# Altium footprint library ProtoStack_H750VBT.PcbLib: 87 footprints (part 4 of 6)
Each footprint in its own frame and in the unit in brackets; x right, y up, seen from the top. Pads: shape width x height; smd on the part's side, far side on the other; paste and mask are expansions set on the pad; w line width, h text height; cw(c..) or ccw(c..) is an arc to the next point about the centre after c.
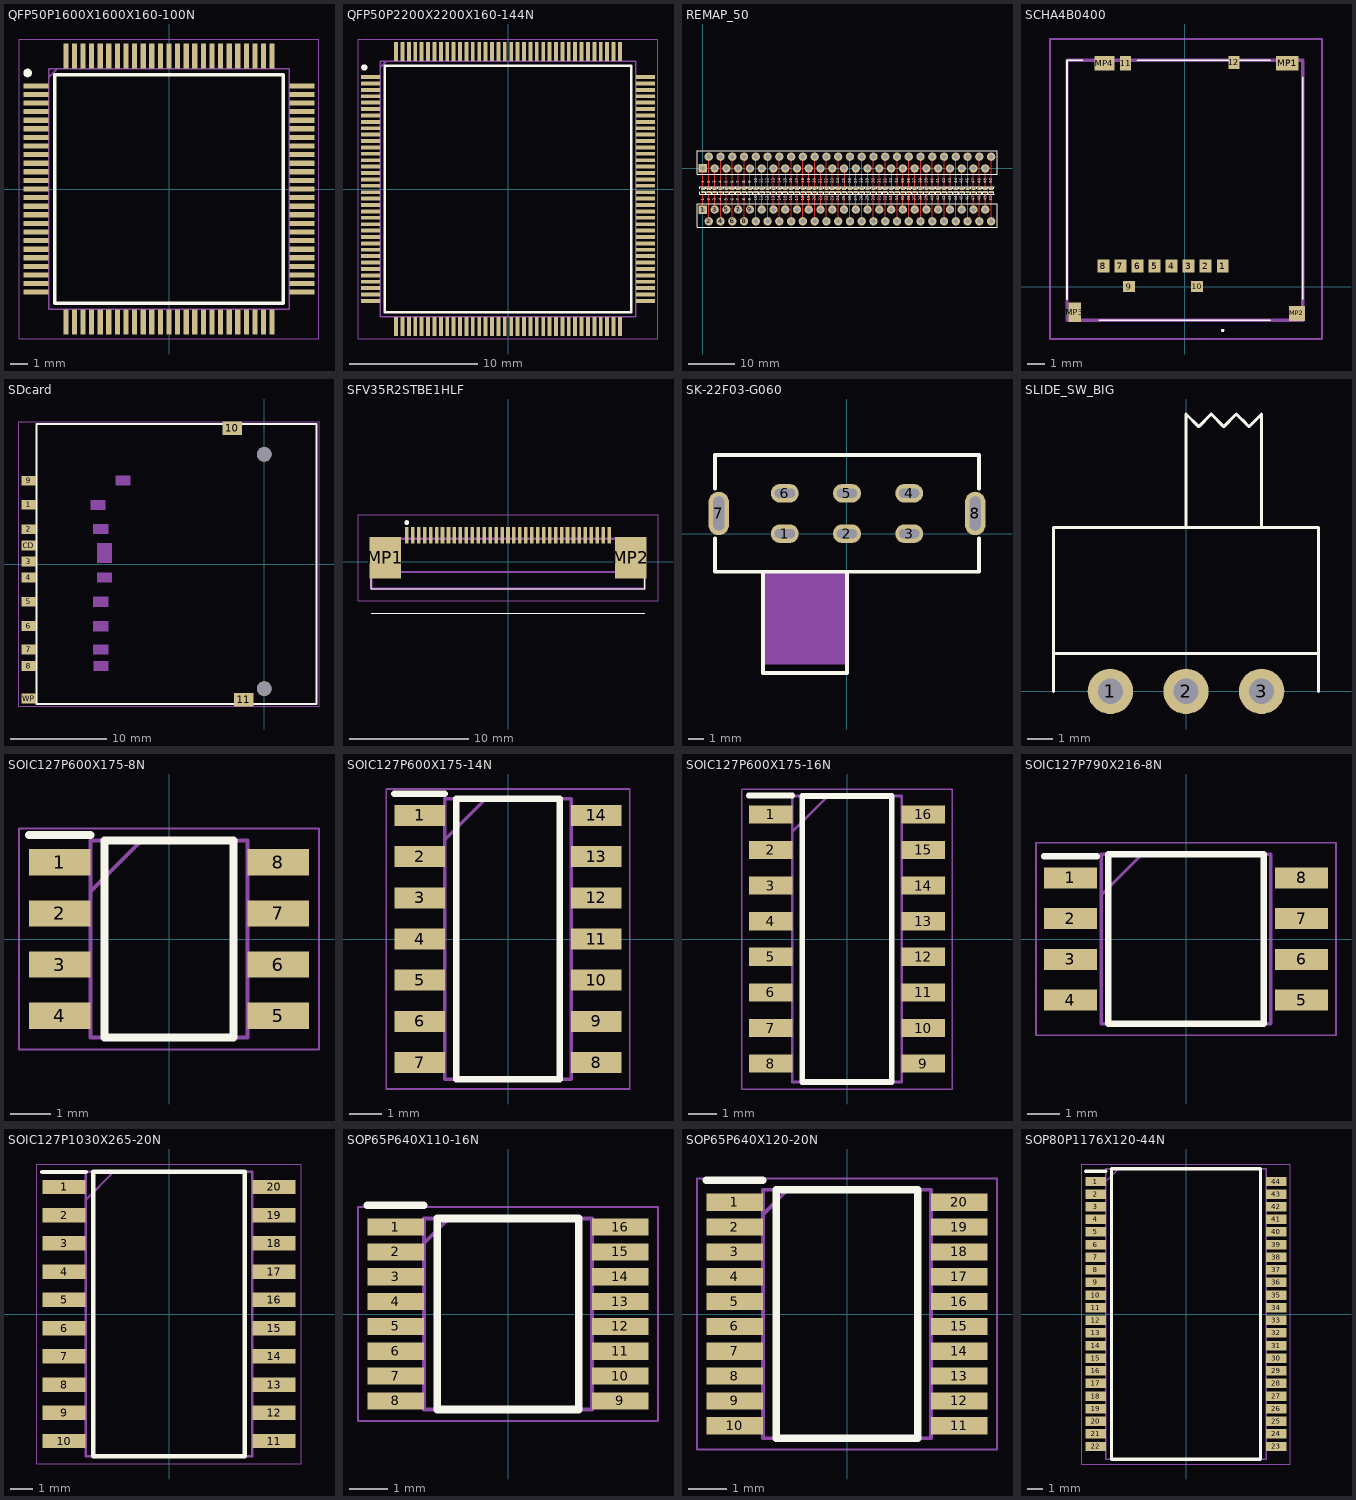
[diagram p3: the footprints below, top view; thin cyan lines are the x and y axes]

## QFP50P1600X1600X160-100N [mm]
pads (100):
  rect 1.475x0.3 smd: 1(-7.738,6) 2(-7.738,5.5) 3(-7.738,5) 4(-7.738,4.5) 5(-7.738,4) 6(-7.738,3.5) 7(-7.738,3) 8(-7.738,2.5) 9(-7.738,2) 10(-7.738,1.5) 11(-7.738,1) 12(-7.738,0.5) 13(-7.738,0) 14(-7.738,-0.5) 15(-7.738,-1) 16(-7.738,-1.5) 17(-7.738,-2) 18(-7.738,-2.5) 19(-7.738,-3) 20(-7.738,-3.5) 21(-7.738,-4) 22(-7.738,-4.5) 23(-7.738,-5) 24(-7.738,-5.5) 25(-7.738,-6) 51(7.738,-6) 52(7.738,-5.5) 53(7.738,-5) 54(7.738,-4.5) 55(7.738,-4) 56(7.738,-3.5) 57(7.738,-3) 58(7.738,-2.5) 59(7.738,-2) 60(7.738,-1.5) 61(7.738,-1) 62(7.738,-0.5) 63(7.738,0) 64(7.738,0.5) 65(7.738,1) 66(7.738,1.5) 67(7.738,2) 68(7.738,2.5) 69(7.738,3) 70(7.738,3.5) 71(7.738,4) 72(7.738,4.5) 73(7.738,5) 74(7.738,5.5) 75(7.738,6)
  rect 0.3x1.475 smd: 26(-6,-7.738) 27(-5.5,-7.738) 28(-5,-7.738) 29(-4.5,-7.738) 30(-4,-7.738) 31(-3.5,-7.738) 32(-3,-7.738) 33(-2.5,-7.738) 34(-2,-7.738) 35(-1.5,-7.738) 36(-1,-7.738) 37(-0.5,-7.738) 38(0,-7.738) 39(0.5,-7.738) 40(1,-7.738) 41(1.5,-7.738) 42(2,-7.738) 43(2.5,-7.738) 44(3,-7.738) 45(3.5,-7.738) 46(4,-7.738) 47(4.5,-7.738) 48(5,-7.738) 49(5.5,-7.738) 50(6,-7.738) 76(6,7.738) 77(5.5,7.738) 78(5,7.738) 79(4.5,7.738) 80(4,7.738) 81(3.5,7.738) 82(3,7.738) 83(2.5,7.738) 84(2,7.738) 85(1.5,7.738) 86(1,7.738) 87(0.5,7.738) 88(0,7.738) 89(-0.5,7.738) 90(-1,7.738) 91(-1.5,7.738) 92(-2,7.738) 93(-2.5,7.738) 94(-3,7.738) 95(-3.5,7.738) 96(-4,7.738) 97(-4.5,7.738) 98(-5,7.738) 99(-5.5,7.738) 100(-6,7.738)
Top Overlay:
  circle w0.25: c-8.225,6.75 r0.125
  lines w0.2: -6.65,-6.65 -6.65,6.65 6.65,6.65 6.65,-6.65 -6.65,-6.65
Mechanical 13:
  lines w0.1: -7,6.5 -6.5,7 ; -7,-7 -7,7 7,7 7,-7 -7,-7
Mechanical 15:
  lines w0.05: -8.725,-8.725 -8.725,8.725 8.725,8.725 8.725,-8.725 -8.725,-8.725
3D body "STM32H750VBT6.stp": height 1.6, standoff 0, extent -8,-8 8,8

## QFP50P2200X2200X160-144N [mm]
pads (144):
  rect 1.475x0.3 smd: 1(-10.738,8.75) 2(-10.738,8.25) 3(-10.738,7.75) 4(-10.738,7.25) 5(-10.738,6.75) 6(-10.738,6.25) 7(-10.738,5.75) 8(-10.738,5.25) 9(-10.738,4.75) 10(-10.738,4.25) 11(-10.738,3.75) 12(-10.738,3.25) 13(-10.738,2.75) 14(-10.738,2.25) 15(-10.738,1.75) 16(-10.738,1.25) 17(-10.738,0.75) 18(-10.738,0.25) 19(-10.738,-0.25) 20(-10.738,-0.75) 21(-10.738,-1.25) 22(-10.738,-1.75) 23(-10.738,-2.25) 24(-10.738,-2.75) 25(-10.738,-3.25) 26(-10.738,-3.75) 27(-10.738,-4.25) 28(-10.738,-4.75) 29(-10.738,-5.25) 30(-10.738,-5.75) 31(-10.738,-6.25) 32(-10.738,-6.75) 33(-10.738,-7.25) 34(-10.738,-7.75) 35(-10.738,-8.25) 36(-10.738,-8.75) 73(10.738,-8.75) 74(10.738,-8.25) 75(10.738,-7.75) 76(10.738,-7.25) 77(10.738,-6.75) 78(10.738,-6.25) 79(10.738,-5.75) 80(10.738,-5.25) 81(10.738,-4.75) 82(10.738,-4.25) 83(10.738,-3.75) 84(10.738,-3.25) 85(10.738,-2.75) 86(10.738,-2.25) 87(10.738,-1.75) 88(10.738,-1.25) 89(10.738,-0.75) 90(10.738,-0.25) 91(10.738,0.25) 92(10.738,0.75) 93(10.738,1.25) 94(10.738,1.75) 95(10.738,2.25) 96(10.738,2.75) 97(10.738,3.25) 98(10.738,3.75) 99(10.738,4.25) 100(10.738,4.75) 101(10.738,5.25) 102(10.738,5.75) 103(10.738,6.25) 104(10.738,6.75) 105(10.738,7.25) 106(10.738,7.75) 107(10.738,8.25) 108(10.738,8.75)
  rect 0.3x1.475 smd: 37(-8.75,-10.738) 38(-8.25,-10.738) 39(-7.75,-10.738) 40(-7.25,-10.738) 41(-6.75,-10.738) 42(-6.25,-10.738) 43(-5.75,-10.738) 44(-5.25,-10.738) 45(-4.75,-10.738) 46(-4.25,-10.738) 47(-3.75,-10.738) 48(-3.25,-10.738) 49(-2.75,-10.738) 50(-2.25,-10.738) 51(-1.75,-10.738) 52(-1.25,-10.738) 53(-0.75,-10.738) 54(-0.25,-10.738) 55(0.25,-10.738) 56(0.75,-10.738) 57(1.25,-10.738) 58(1.75,-10.738) 59(2.25,-10.738) 60(2.75,-10.738) 61(3.25,-10.738) 62(3.75,-10.738) 63(4.25,-10.738) 64(4.75,-10.738) 65(5.25,-10.738) 66(5.75,-10.738) 67(6.25,-10.738) 68(6.75,-10.738) 69(7.25,-10.738) 70(7.75,-10.738) 71(8.25,-10.738) 72(8.75,-10.738) 109(8.75,10.738) 110(8.25,10.738) 111(7.75,10.738) 112(7.25,10.738) 113(6.75,10.738) 114(6.25,10.738) 115(5.75,10.738) 116(5.25,10.738) 117(4.75,10.738) 118(4.25,10.738) 119(3.75,10.738) 120(3.25,10.738) 121(2.75,10.738) 122(2.25,10.738) 123(1.75,10.738) 124(1.25,10.738) 125(0.75,10.738) 126(0.25,10.738) 127(-0.25,10.738) 128(-0.75,10.738) 129(-1.25,10.738) 130(-1.75,10.738) 131(-2.25,10.738) 132(-2.75,10.738) 133(-3.25,10.738) 134(-3.75,10.738) 135(-4.25,10.738) 136(-4.75,10.738) 137(-5.25,10.738) 138(-5.75,10.738) 139(-6.25,10.738) 140(-6.75,10.738) 141(-7.25,10.738) 142(-7.75,10.738) 143(-8.25,10.738) 144(-8.75,10.738)
Top Overlay:
  circle w0.25: c-11.225,9.5 r0.125
  lines w0.2: -9.65,-9.65 -9.65,9.65 9.65,9.65 9.65,-9.65 -9.65,-9.65
Mechanical 13:
  lines w0.1: -10,9.5 -9.5,10 ; -10,-10 -10,10 10,10 10,-10 -10,-10
Mechanical 15:
  lines w0.05: -11.725,-11.725 -11.725,11.725 11.725,11.725 11.725,-11.725 -11.725,-11.725
3D body "STM32H743ZIT6U.stp": height 1.6, standoff 0, extent -11,-11 11,11

## REMAP_50 [mm]
pads (200):
  rect 1.8x1.8 hole 1: 1(0,-8.89) R1(0,0)
  rect 0.9x0.5 smd: 1_(0,-5.08) 1_(1.27,-5.08) 1_(2.54,-5.08) 1_(3.81,-5.08) 1_(5.08,-5.08) 1_(6.35,-5.08) 1_(7.62,-5.08) 1_(8.89,-5.08) 1_(10.16,-5.08) 1_(11.43,-5.08) 1_(12.7,-5.08) 1_(13.97,-5.08) 1_(15.24,-5.08) 1_(16.51,-5.08) 1_(17.78,-5.08) 1_(19.05,-5.08) 1_(20.32,-5.08) 1_(21.59,-5.08) 1_(22.86,-5.08) 1_(24.13,-5.08) 1_(25.4,-5.08) 1_(26.67,-5.08) 1_(27.94,-5.08) 1_(29.21,-5.08) 1_(30.48,-5.08) 1_(31.75,-5.08) 1_(33.02,-5.08) 1_(34.29,-5.08) 1_(35.56,-5.08) 1_(36.83,-5.08) 1_(38.1,-5.08) 1_(39.37,-5.08) 1_(40.64,-5.08) 1_(41.91,-5.08) 1_(43.18,-5.08) 1_(44.45,-5.08) 1_(45.72,-5.08) 1_(46.99,-5.08) 1_(48.26,-5.08) 1_(49.53,-5.08) 1_(50.8,-5.08) 1_(52.07,-5.08) 1_(53.34,-5.08) 1_(54.61,-5.08) 1_(55.88,-5.08) 1_(57.15,-5.08) 1_(58.42,-5.08) 1_(59.69,-5.08) 1_(60.96,-5.08) 1_(62.23,-5.08) 2_(0,-4.38) 2_(1.27,-4.38) 2_(2.54,-4.38) 2_(3.81,-4.38) 2_(5.08,-4.38) 2_(6.35,-4.38) 2_(7.62,-4.38) 2_(8.89,-4.38) 2_(10.16,-4.38) 2_(11.43,-4.38) 2_(12.7,-4.38) 2_(13.97,-4.38) 2_(15.24,-4.38) 2_(16.51,-4.38) 2_(17.78,-4.38) 2_(19.05,-4.38) 2_(20.32,-4.38) 2_(21.59,-4.38) 2_(22.86,-4.38) 2_(24.13,-4.38) 2_(25.4,-4.38) 2_(26.67,-4.38) 2_(27.94,-4.38) 2_(29.21,-4.38) 2_(30.48,-4.38) 2_(31.75,-4.38) 2_(33.02,-4.38) 2_(34.29,-4.38) 2_(35.56,-4.38) 2_(36.83,-4.38) 2_(38.1,-4.38) 2_(39.37,-4.38) 2_(40.64,-4.38) 2_(41.91,-4.38) 2_(43.18,-4.38) 2_(44.45,-4.38) 2_(45.72,-4.38) 2_(46.99,-4.38) 2_(48.26,-4.38) 2_(49.53,-4.38) 2_(50.8,-4.38) 2_(52.07,-4.38) 2_(53.34,-4.38) 2_(54.61,-4.38) 2_(55.88,-4.38) 2_(57.15,-4.38) 2_(58.42,-4.38) 2_(59.69,-4.38) 2_(60.96,-4.38) 2_(62.23,-4.38)
  round 1.8 hole 1: 2(1.27,-11.43) 3(2.54,-8.89) 4(3.81,-11.43) 5(5.08,-8.89) 6(6.35,-11.43) 7(7.62,-8.89) 8(8.89,-11.43) 9(10.16,-8.89) 10(11.43,-11.43) 11(12.7,-8.89) 12(13.97,-11.43) 13(15.24,-8.89) 14(16.51,-11.43) 15(17.78,-8.89) 16(19.05,-11.43) 17(20.32,-8.89) 18(21.59,-11.43) 19(22.86,-8.89) 20(24.13,-11.43) 21(25.4,-8.89) 22(26.67,-11.43) 23(27.94,-8.89) 24(29.21,-11.43) 25(30.48,-8.89) 26(31.75,-11.43) 27(33.02,-8.89) 28(34.29,-11.43) 29(35.56,-8.89) 30(36.83,-11.43) 31(38.1,-8.89) 32(39.37,-11.43) 33(40.64,-8.89) 34(41.91,-11.43) 35(43.18,-8.89) 36(44.45,-11.43) 37(45.72,-8.89) 38(46.99,-11.43) 39(48.26,-8.89) 40(49.53,-11.43) 41(50.8,-8.89) 42(52.07,-11.43) 43(53.34,-8.89) 44(54.61,-11.43) 45(55.88,-8.89) 46(57.15,-11.43) 47(58.42,-8.89) 48(59.69,-11.43) 49(60.96,-8.89) 50(62.23,-11.43) R2(1.27,2.54) R3(2.54,0) R4(3.81,2.54) R5(5.08,0) R6(6.35,2.54) R7(7.62,0) R8(8.89,2.54) R9(10.16,0) R10(11.43,2.54) R11(12.7,0) R12(13.97,2.54) R13(15.24,0) R14(16.51,2.54) R15(17.78,0) R16(19.05,2.54) R17(20.32,0) R18(21.59,2.54) R19(22.86,0) R20(24.13,2.54) R21(25.4,0) R22(26.67,2.54) R23(27.94,0) R24(29.21,2.54) R25(30.48,0) R26(31.75,2.54) R27(33.02,0) R28(34.29,2.54) R29(35.56,0) R30(36.83,2.54) R31(38.1,0) R32(39.37,2.54) R33(40.64,0) R34(41.91,2.54) R35(43.18,0) R36(44.45,2.54) R37(45.72,0) R38(46.99,2.54) R39(48.26,0) R40(49.53,2.54) R41(50.8,0) R42(52.07,2.54) R43(53.34,0) R44(54.61,2.54) R45(55.88,0) R46(57.15,2.54) R47(58.42,0) R48(59.69,2.54) R49(60.96,0) R50(62.23,2.54)
Top Layer:
  lines w0.203: 0,-8.89 0,-5.08 ; 0,-4.38 0,-0.57 ; 1.27,-11.43 1.27,-5.08 ; 1.27,-4.38 1.27,1.97 ; 2.54,-8.89 2.54,-5.08 ; 2.54,-4.38 2.54,-0.57 ; 3.81,-11.43 3.81,-5.08 ; 3.81,-4.38 3.81,1.97 ; 5.08,-8.89 5.08,-5.08 ; 5.08,-4.38 5.08,-0.57 ; 6.35,-11.43 6.35,-5.08 ; 6.35,-4.38 6.35,1.97 ; 7.62,-8.89 7.62,-5.08 ; 7.62,-4.38 7.62,-0.57 ; 8.89,-11.43 8.89,-5.08 ; 8.89,-4.38 8.89,1.97 ; 10.16,-8.89 10.16,-5.08 ; 10.16,-4.38 10.16,-0.57 ; 11.43,-11.43 11.43,-5.08 ; 11.43,-4.38 11.43,1.97 ; 12.7,-8.89 12.7,-5.08 ; 12.7,-4.38 12.7,-0.57 ; 13.97,-11.43 13.97,-5.08 ; 13.97,-4.38 13.97,1.97 ; 15.24,-8.89 15.24,-5.08 ; 15.24,-4.38 15.24,-0.57 ; 16.51,-11.43 16.51,-5.08 ; 16.51,-4.38 16.51,1.97 ; 17.78,-8.89 17.78,-5.08 ; 17.78,-4.38 17.78,-0.57 ; 19.05,-11.43 19.05,-5.08 ; 19.05,-4.38 19.05,1.97 ; 20.32,-8.89 20.32,-5.08 ; 20.32,-4.38 20.32,-0.57 ; 21.59,-11.43 21.59,-5.08 ; 21.59,-4.38 21.59,1.97 ; 22.86,-8.89 22.86,-5.08 ; 22.86,-4.38 22.86,-0.57 ; 24.13,-11.43 24.13,-5.08 ; 24.13,-4.38 24.13,1.97 ; 25.4,-8.89 25.4,-5.08 ; 25.4,-4.38 25.4,-0.57 ; 26.67,-11.43 26.67,-5.08 ; 26.67,-4.38 26.67,1.97 ; 27.94,-8.89 27.94,-5.08 ; 27.94,-4.38 27.94,-0.57 ; 29.21,-11.43 29.21,-5.08 ; 29.21,-4.38 29.21,1.97 ; 30.48,-8.89 30.48,-5.08 ; 30.48,-4.38 30.48,-0.57 ; 31.75,-11.43 31.75,-5.08 ; 31.75,-4.38 31.75,1.97 ; 33.02,-8.89 33.02,-5.08 ; 33.02,-4.38 33.02,-0.57 ; 34.29,-11.43 34.29,-5.08 ; 34.29,-4.38 34.29,1.97 ; 35.56,-8.89 35.56,-5.08 ; 35.56,-4.38 35.56,-0.57 ; 36.83,-11.43 36.83,-5.08 ; 36.83,-4.38 36.83,1.97 ; 38.1,-8.89 38.1,-5.08 ; 38.1,-4.38 38.1,-0.57 ; 39.37,-11.43 39.37,-5.08 ; 39.37,-4.38 39.37,1.97 ; 40.64,-8.89 40.64,-5.08 ; 40.64,-4.38 40.64,-0.57 ; 41.91,-11.43 41.91,-5.08 ; 41.91,-4.38 41.91,1.97 ; 43.18,-8.89 43.18,-5.08 ; 43.18,-4.38 43.18,-0.57 ; 44.45,-11.43 44.45,-5.08 ; 44.45,-4.38 44.45,1.97 ; 45.72,-8.89 45.72,-5.08 ; 45.72,-4.38 45.72,-0.57 ; 46.99,-11.43 46.99,-5.08 ; 46.99,-4.38 46.99,1.97 ; 48.26,-8.89 48.26,-5.08 ; 48.26,-4.38 48.26,-0.57 ; 49.53,-11.43 49.53,-5.08 ; 49.53,-4.38 49.53,1.97 ; 50.8,-8.89 50.8,-5.08 ; 50.8,-4.38 50.8,-0.57 ; 52.07,-11.43 52.07,-5.08 ; 52.07,-4.38 52.07,1.97 ; 53.34,-8.89 53.34,-5.08 ; 53.34,-4.38 53.34,-0.57 ; 54.61,-11.43 54.61,-5.08 ; 54.61,-4.38 54.61,1.97 ; 55.88,-8.89 55.88,-5.08 ; 55.88,-4.38 55.88,-0.57 ; 57.15,-11.43 57.15,-5.08 ; 57.15,-4.38 57.15,1.97 ; 58.42,-8.89 58.42,-5.08 ; 58.42,-4.38 58.42,-0.57 ; 59.69,-11.43 59.69,-5.08 ; 59.69,-4.38 59.69,1.97 ; 60.96,-8.89 60.96,-5.08 ; 60.96,-4.38 60.96,-0.57 ; 62.23,-11.43 62.23,-5.08 ; 62.23,-4.38 62.23,1.97
Top Overlay:
  drawing of 309 lines, arcs and shapes, not listed
  text "1" at 0.275,-3.217 h0.64
  text "3" at 2.815,-3.217 h0.64
  text "5" at 5.355,-3.217 h0.64
  text "7" at 7.895,-3.217 h0.64
  text "9" at 10.435,-3.217 h0.64
  text "11" at 12.975,-3.217 h0.64
  text "2" at 1.545,-3.217 h0.64
  text "4" at 4.085,-3.217 h0.64
  text "6" at 6.625,-3.217 h0.64
  text "8" at 9.165,-3.217 h0.64
  text "10" at 11.705,-3.217 h0.64
  text "12" at 14.245,-3.217 h0.64
  text "13" at 15.515,-3.217 h0.64
  text "14" at 16.785,-3.217 h0.64
  text "15" at 18.055,-3.217 h0.64
  text "16" at 19.325,-3.217 h0.64
  text "17" at 20.595,-3.217 h0.64
  text "18" at 21.865,-3.217 h0.64
  text "19" at 23.135,-3.217 h0.64
  text "20" at 24.405,-3.217 h0.64
  text "21" at 25.675,-3.217 h0.64
  text "22" at 26.945,-3.217 h0.64
  text "23" at 28.215,-3.217 h0.64
  text "24" at 29.485,-3.217 h0.64
  text "25" at 30.755,-3.217 h0.64
  text "26" at 32.025,-3.217 h0.64
  text "27" at 33.295,-3.217 h0.64
  text "28" at 34.565,-3.217 h0.64
  text "29" at 35.835,-3.217 h0.64
  text "30" at 37.105,-3.217 h0.64
  text "31" at 38.375,-3.217 h0.64
  text "32" at 39.645,-3.217 h0.64
  text "33" at 40.915,-3.217 h0.64
  text "34" at 42.185,-3.217 h0.64
  text "35" at 43.455,-3.217 h0.64
  text "36" at 44.725,-3.217 h0.64
  text "37" at 45.995,-3.217 h0.64
  text "38" at 47.265,-3.217 h0.64
  text "39" at 48.535,-3.217 h0.64
  text "40" at 49.805,-3.217 h0.64
  text "41" at 51.075,-3.217 h0.64
  text "42" at 52.345,-3.217 h0.64
  text "43" at 53.615,-3.217 h0.64
  text "44" at 54.885,-3.217 h0.64
  text "45" at 56.155,-3.217 h0.64
  text "46" at 57.425,-3.217 h0.64
  text "47" at 58.695,-3.217 h0.64
  text "48" at 59.965,-3.217 h0.64
  text "49" at 61.235,-3.217 h0.64
  text "50" at 62.505,-3.217 h0.64
  text "1" at 0.275,-7.027 h0.64
  text "3" at 2.815,-7.027 h0.64
  text "5" at 5.355,-7.027 h0.64
  text "7" at 7.895,-7.027 h0.64
  text "9" at 10.435,-7.027 h0.64
  text "11" at 12.975,-7.027 h0.64
  text "2" at 1.545,-7.027 h0.64
  text "4" at 4.085,-7.027 h0.64
  text "6" at 6.625,-7.027 h0.64
  text "8" at 9.165,-7.027 h0.64
  text "10" at 11.705,-7.027 h0.64
  text "12" at 14.245,-7.027 h0.64
  text "13" at 15.515,-7.027 h0.64
  text "14" at 16.785,-7.027 h0.64
  text "15" at 18.055,-7.027 h0.64
  text "16" at 19.325,-7.027 h0.64
  text "17" at 20.595,-7.027 h0.64
  text "18" at 21.865,-7.027 h0.64
  text "19" at 23.135,-7.027 h0.64
  text "20" at 24.405,-7.027 h0.64
  text "21" at 25.675,-7.027 h0.64
  text "22" at 26.945,-7.027 h0.64
  text "23" at 28.215,-7.027 h0.64
  text "24" at 29.485,-7.027 h0.64
  text "25" at 30.755,-7.027 h0.64
  text "26" at 32.025,-7.027 h0.64
  text "27" at 33.295,-7.027 h0.64
  text "28" at 34.565,-7.027 h0.64
  text "29" at 35.835,-7.027 h0.64
  text "30" at 37.105,-7.027 h0.64
  text "31" at 38.375,-7.027 h0.64
  text "32" at 39.645,-7.027 h0.64
  text "33" at 40.915,-7.027 h0.64
  text "34" at 42.185,-7.027 h0.64
  text "35" at 43.455,-7.027 h0.64
  text "36" at 44.725,-7.027 h0.64
  text "37" at 45.995,-7.027 h0.64
  text "38" at 47.265,-7.027 h0.64
  text "39" at 48.535,-7.027 h0.64
  text "40" at 49.805,-7.027 h0.64
  text "41" at 51.075,-7.027 h0.64
  text "42" at 52.345,-7.027 h0.64
  text "43" at 53.615,-7.027 h0.64
  text "44" at 54.885,-7.027 h0.64
  text "45" at 56.155,-7.027 h0.64
  text "46" at 57.425,-7.027 h0.64
  text "47" at 58.695,-7.027 h0.64
  text "48" at 59.965,-7.027 h0.64
  text "49" at 61.235,-7.027 h0.64
  text "50" at 62.505,-7.027 h0.64
Bottom Overlay:
  text "46" at 57.425,-2.252 h0.64
  text "49" at 61.235,-2.252 h0.64
  text "41" at 51.075,-2.252 h0.64
  text "43" at 53.615,-2.252 h0.64
  text "44" at 54.885,-2.252 h0.64
  text "33" at 40.915,-2.252 h0.64
  text "35" at 43.455,-2.252 h0.64
  text "36" at 44.725,-2.252 h0.64
  text "38" at 47.265,-2.252 h0.64
  text "27" at 33.295,-2.252 h0.64
  text "28" at 34.565,-2.252 h0.64
  text "30" at 37.105,-2.252 h0.64
  text "20" at 24.405,-2.252 h0.64
  text "22" at 26.945,-2.252 h0.64
  text "25" at 30.755,-2.252 h0.64
  text "14" at 16.785,-2.252 h0.64
  text "17" at 20.595,-2.252 h0.64
  text "19" at 23.135,-2.252 h0.64
  text "9" at 10.435,-2.252 h0.64
  text "11" at 12.975,-2.252 h0.64
  text "12" at 14.245,-2.252 h0.64
  text "3" at 2.815,-2.252 h0.64
  text "4" at 4.085,-2.252 h0.64
  text "6" at 6.625,-2.252 h0.64
  text "1" at 0.275,-2.252 h0.64
  text "50" at 62.505,-2.252 h0.64
  text "48" at 59.965,-2.252 h0.64
  text "47" at 58.695,-2.252 h0.64
  text "45" at 56.155,-2.252 h0.64
  text "42" at 52.345,-2.252 h0.64
  text "40" at 49.805,-2.252 h0.64
  text "39" at 48.535,-2.252 h0.64
  text "37" at 45.995,-2.252 h0.64
  text "34" at 42.185,-2.252 h0.64
  text "32" at 39.645,-2.252 h0.64
  text "31" at 38.375,-2.252 h0.64
  text "29" at 35.835,-2.252 h0.64
  text "26" at 32.025,-2.252 h0.64
  text "24" at 29.485,-2.252 h0.64
  text "23" at 28.215,-2.252 h0.64
  text "21" at 25.675,-2.252 h0.64
  text "18" at 21.865,-2.252 h0.64
  text "16" at 19.325,-2.252 h0.64
  text "15" at 18.055,-2.252 h0.64
  text "13" at 15.515,-2.252 h0.64
  text "10" at 11.705,-2.252 h0.64
  text "8" at 9.165,-2.252 h0.64
  text "7" at 7.895,-2.252 h0.64
  text "5" at 5.355,-2.252 h0.64
  text "2" at 1.545,-2.252 h0.64
  text "46" at 57.425,-6.062 h0.64
  text "49" at 61.235,-6.062 h0.64
  text "41" at 51.075,-6.062 h0.64
  text "43" at 53.615,-6.062 h0.64
  text "44" at 54.885,-6.062 h0.64
  text "33" at 40.915,-6.062 h0.64
  text "35" at 43.455,-6.062 h0.64
  text "36" at 44.725,-6.062 h0.64
  text "38" at 47.265,-6.062 h0.64
  text "27" at 33.295,-6.062 h0.64
  text "28" at 34.565,-6.062 h0.64
  text "30" at 37.105,-6.062 h0.64
  text "20" at 24.405,-6.062 h0.64
  text "22" at 26.945,-6.062 h0.64
  text "25" at 30.755,-6.062 h0.64
  text "14" at 16.785,-6.062 h0.64
  text "17" at 20.595,-6.062 h0.64
  text "19" at 23.135,-6.062 h0.64
  text "9" at 10.435,-6.062 h0.64
  text "11" at 12.975,-6.062 h0.64
  text "12" at 14.245,-6.062 h0.64
  text "3" at 2.815,-6.062 h0.64
  text "4" at 4.085,-6.062 h0.64
  text "6" at 6.625,-6.062 h0.64
  text "1" at 0.275,-6.062 h0.64
  text "50" at 62.505,-6.062 h0.64
  text "48" at 59.965,-6.062 h0.64
  text "47" at 58.695,-6.062 h0.64
  text "45" at 56.155,-6.062 h0.64
  text "42" at 52.345,-6.062 h0.64
  text "40" at 49.805,-6.062 h0.64
  text "39" at 48.535,-6.062 h0.64
  text "37" at 45.995,-6.062 h0.64
  text "34" at 42.185,-6.062 h0.64
  text "32" at 39.645,-6.062 h0.64
  text "31" at 38.375,-6.062 h0.64
  text "29" at 35.835,-6.062 h0.64
  text "26" at 32.025,-6.062 h0.64
  text "24" at 29.485,-6.062 h0.64
  text "23" at 28.215,-6.062 h0.64
  text "21" at 25.675,-6.062 h0.64
  text "18" at 21.865,-6.062 h0.64
  text "16" at 19.325,-6.062 h0.64
  text "15" at 18.055,-6.062 h0.64
  text "13" at 15.515,-6.062 h0.64
  text "10" at 11.705,-6.062 h0.64
  text "8" at 9.165,-6.062 h0.64
  text "7" at 7.895,-6.062 h0.64
  text "5" at 5.355,-6.062 h0.64
  text "2" at 1.545,-6.062 h0.64

## SCHA4B0400 [mm]
pads (16):
  rect 0.7x0.75 smd: 1(2.225,1.2) 2(1.225,1.2) 3(0.225,1.2) 4(-0.775,1.2) 5(-1.775,1.2) 6(-2.775,1.2) 7(-3.775,1.2) 8(-4.775,1.2)
  rect 0.7x0.65 smd: 9(-3.275,0) 10(0.725,0)
  rect 0.65x0.85 smd: 11(-3.475,13.1)
  rect 0.65x0.75 smd: 12(2.875,13.15)
  rect 1.3x0.85 smd: MP1(6.013,13.1)
  rect 0.95x0.9 smd: MP2(6.575,-1.575)
  rect 0.745x1.15 smd: MP3(-6.46,-1.5)
  rect 1.2x0.85 smd: MP4(-4.713,13.1)
Top Overlay:
  lines w0.1: -6.912,-0.725 -6.912,13.275 -6,13.275 ; -5,-1.975 5,-1.975 ; -2.775,13.275 5,13.275 ; 6.912,-0.725 6.912,12.275 ; 2.169,-2.575 cw(c2.219,-2.575) 2.269,-2.575 cw(c2.219,-2.575) 2.169,-2.575
Mechanical 13:
  lines w0.2: -6.912,-1.975 -6.912,13.275 6.912,13.275 6.912,-1.975 -6.912,-1.975
Mechanical 15:
  lines w0.1: -7.912,-3.075 -7.912,14.525 8.05,14.525 8.05,-3.075 -7.912,-3.075
3D body "SCHA4B0400.stp": height 1.39, standoff 0, extent -6.912,-2 6.96,13.46

## SDcard [mm]
pads (15):
  rect 1.5x1 smd: 1(-24.31,6.1) 2(-24.31,3.6) 3(-24.31,0.25) 4(-24.31,-1.4) 5(-24.31,-3.9) 6(-24.31,-6.4) 7(-24.31,-8.83) 8(-24.31,-10.53) 9(-24.31,8.6) CD(-24.31,1.9) WP(-24.31,-13.88)
  rect 2x1.4 smd: 10(-3.3,14) 11(-2.1,-14)
  round 1.5 hole 1.5 unplated: None(0,-12.85) None(0,11.3)
Top Overlay:
  lines w0.2: -23.5,-14.45 5.4,-14.45 5.4,14.45 -23.5,14.45 -23.5,-14.45
Mechanical 16:
  region: -15.307,9.1 -13.8,9.1 -13.8,8.104 -15.307,8.104
  region: -17.911,6.6 -16.41,6.6 -16.41,5.6 -17.911,5.6
  region: -17.634,4.1 -16.11,4.1 -16.11,3.104 -17.634,3.104
  region: -17.212,2.14 -15.71,2.14 -15.71,0.14 -17.212,0.14
  region: -17.243,-0.9 -15.71,-0.9 -15.71,-1.904 -17.243,-1.904
  region: -17.628,-3.4 -16.11,-3.4 -16.11,-4.404 -17.628,-4.404
  region: -17.643,-5.9 -16.11,-5.9 -16.11,-6.913 -17.643,-6.913
  region: -17.615,-8.33 -16.11,-8.33 -16.11,-9.333 -17.615,-9.333
  region: -17.613,-10.03 -16.11,-10.03 -16.11,-11.032 -17.613,-11.032
  lines w0.05: -25.3,-14.7 5.65,-14.7 5.65,14.7 -25.3,14.7 -25.3,-14.7
3D body "c-1939870-1-b-3d.stp": height 3.33, standoff -1.01, extent -24.299,-13.792 5.401,13.888

## SFV35R2STBE1HLF [mm]
pads (37):
  rect 0.3x1.4 smd: 1(-8.5,2.25) 2(-8,2.25) 3(-7.5,2.25) 4(-7,2.25) 5(-6.5,2.25) 6(-6,2.25) 7(-5.5,2.25) 8(-5,2.25) 9(-4.5,2.25) 10(-4,2.25) 11(-3.5,2.25) 12(-3,2.25) 13(-2.5,2.25) 14(-2,2.25) 15(-1.5,2.25) 16(-1,2.25) 17(-0.5,2.25) 18(0,2.25) 19(0.5,2.25) 20(1,2.25) 21(1.5,2.25) 22(2,2.25) 23(2.5,2.25) 24(3,2.25) 25(3.5,2.25) 26(4,2.25) 27(4.5,2.25) 28(5,2.25) 29(5.5,2.25) 30(6,2.25) 31(6.5,2.25) 32(7,2.25) 33(7.5,2.25) 34(8,2.25) 35(8.5,2.25)
  rect 2.65x3.5 smd: MP1(-10.312,0.356) MP2(10.312,0.356)
Top Overlay:
  lines w0.1: -11.5,-4.3 11.5,-4.3 ; -10.7,-0.85 -11.5,-0.85 -11.5,-2.25 11.5,-2.25 11.5,-0.85 10.7,-0.85
  lines w0.2: -8.5,3.2 ccw(c-8.5,3.3) -8.5,3.4 ccw(c-8.5,3.3) -8.5,3.2
Mechanical 13:
  lines w0.2: -11.5,-2.25 11.5,-2.25 11.5,-0.85 -11.5,-0.85 -11.5,-2.25 ; -10.7,-0.85 10.7,-0.85 10.7,1.95 -10.7,1.95 -10.7,-0.85
Mechanical 15:
  lines w0.1: -12.6,-3.25 12.6,-3.25 12.6,3.95 -12.6,3.95 -12.6,-3.25
3D body "FFC35TOP.stp": height 2, standoff -0.05, extent -11.5,-4.343 11.5,2.807

## SK-22F03-G060 [mm] "G-Switch SK-22F03-G060"
pads (8):
  oval 1.8x1.2 hole 0.6 slot 1.3 at 0 deg paste-2539.97 mask+0.05: 1(-4,0) 2(0,0) 3(4,0) 4(4,2.6) 5(0,2.6) 6(-4,2.6)
  oval 1.3x2.8 hole 0.7 slot 2.2 at 90 deg paste-2539.97 mask+0.05: 7(-8.25,1.3) 8(8.25,1.3)
Top Overlay:
  lines w0.254: -8.5,-0.295 -8.5,-2.45 8.5,-2.45 8.5,-0.295 ; -8.5,2.895 -8.5,5.05 8.5,5.05 8.5,2.895 ; -5.4,-2.45 -5.4,-8.95 0,-8.95 0,-2.45
Mechanical 15:
  region: -5.3,-2.5 -5.3,-8.4 0,-8.4 0,-2.5
3D body "MFS201N-16-Z.STEP": height 9, standoff -3, extent -8.318,-9.586 8.382,5.014

## SLIDE_SW_BIG [mm] "My slide switch from chip dip L-KLS7-SS-12F19-G5"
pads (3):
  round 1.8 hole 1: 1(-3,0) 2(0,0) 3(3,0)
Top Overlay:
  lines w0.127: -5.25,0 -5.25,6.5 5.25,6.5 5.25,0 ; -5.25,1.5 5.25,1.5 ; 2.5,10.5 3,11 3,6.5 0,6.5 0,11 0.5,10.5 1,11 1.5,10.5 2,11 2.5,10.5 ; 2.5,10.5 2.25,10.75 2.5,10.5
3D body "L-KLS7-SS-12F19A-G5.step": height 5.5, standoff -3.75, extent -5.25,-0.25 5.25,11.249

## SOIC127P600X175-8N [mm]
pads (8):
  rect 1.525x0.65 smd: 1(-2.712,1.905) 2(-2.712,0.635) 3(-2.712,-0.635) 4(-2.712,-1.905) 5(2.712,-1.905) 6(2.712,-0.635) 7(2.712,0.635) 8(2.712,1.905)
Top Overlay:
  lines w0.2: -3.475,2.58 -1.95,2.58 ; -1.6,-2.45 -1.6,2.45 1.6,2.45 1.6,-2.45 -1.6,-2.45
Mechanical 13:
  lines w0.1: -1.95,1.18 -0.68,2.45 ; -1.95,-2.45 -1.95,2.45 1.95,2.45 1.95,-2.45 -1.95,-2.45
Mechanical 15:
  lines w0.05: -3.725,-2.75 -3.725,2.75 3.725,2.75 3.725,-2.75 -3.725,-2.75
3D body "NE555DR.stp": height 1.75, standoff 0, extent -3,-2.45 3,2.45

## SOIC127P600X175-14N [mm]
pads (14):
  rect 1.55x0.65 smd: 1(-2.725,3.81) 2(-2.725,2.54) 3(-2.725,1.27) 4(-2.725,0) 5(-2.725,-1.27) 6(-2.725,-2.54) 7(-2.725,-3.81) 8(2.725,-3.81) 9(2.725,-2.54) 10(2.725,-1.27) 11(2.725,0) 12(2.725,1.27) 13(2.725,2.54) 14(2.725,3.81)
Top Overlay:
  lines w0.2: -3.5,4.485 -1.95,4.485 ; -1.6,-4.325 -1.6,4.325 1.6,4.325 1.6,-4.325 -1.6,-4.325
Mechanical 13:
  lines w0.1: -1.95,3.055 -0.68,4.325 ; -1.95,-4.325 -1.95,4.325 1.95,4.325 1.95,-4.325 -1.95,-4.325
Mechanical 15:
  lines w0.05: -3.75,-4.625 -3.75,4.625 3.75,4.625 3.75,-4.625 -3.75,-4.625
3D body "MC74VHC50DG.stp": height 1.75, standoff 0, extent -3,-4.325 3,4.325

## SOIC127P600X175-16N [mm]
pads (16):
  rect 1.55x0.65 smd: 1(-2.725,4.445) 2(-2.725,3.175) 3(-2.725,1.905) 4(-2.725,0.635) 5(-2.725,-0.635) 6(-2.725,-1.905) 7(-2.725,-3.175) 8(-2.725,-4.445) 9(2.725,-4.445) 10(2.725,-3.175) 11(2.725,-1.905) 12(2.725,-0.635) 13(2.725,0.635) 14(2.725,1.905) 15(2.725,3.175) 16(2.725,4.445)
Top Overlay:
  lines w0.2: -3.5,5.12 -1.95,5.12 ; -1.6,-5.1 1.6,-5.1 1.6,5.1 -1.6,5.1 -1.6,-5.1
Mechanical 13:
  lines w0.1: -1.95,3.83 -0.68,5.1 ; -1.95,-5.1 1.95,-5.1 1.95,5.1 -1.95,5.1 -1.95,-5.1
Mechanical 15:
  lines w0.05: -3.75,-5.35 3.75,-5.35 3.75,5.35 -3.75,5.35 -3.75,-5.35
3D body "74HC165D_BJ_.stp": height 1.75, standoff 0, extent -3,-5.1 3,5.1

## SOIC127P790X216-8N [mm]
pads (8):
  rect 1.65x0.65 smd: 1(-3.6,1.905) 2(-3.6,0.635) 3(-3.6,-0.635) 4(-3.6,-1.905) 5(3.6,-1.905) 6(3.6,-0.635) 7(3.6,0.635) 8(3.6,1.905)
Top Overlay:
  lines w0.2: -4.425,2.58 -2.775,2.58 ; -2.425,-2.642 -2.425,2.642 2.425,2.642 2.425,-2.642 -2.425,-2.642
Mechanical 13:
  lines w0.1: -2.642,1.372 -1.372,2.642 ; -2.642,-2.642 -2.642,2.642 2.642,2.642 2.642,-2.642 -2.642,-2.642
Mechanical 15:
  lines w0.05: -4.675,-2.995 -4.675,2.995 4.675,2.995 4.675,-2.995 -4.675,-2.995
3D body "N25Q128A13ESE40F.stp": height 2.16, standoff 0, extent -3.95,-2.642 3.95,2.642

## SOIC127P1030X265-20N [mm]
pads (20):
  rect 1.95x0.65 smd: 1(-4.725,5.715) 2(-4.725,4.445) 3(-4.725,3.175) 4(-4.725,1.905) 5(-4.725,0.635) 6(-4.725,-0.635) 7(-4.725,-1.905) 8(-4.725,-3.175) 9(-4.725,-4.445) 10(-4.725,-5.715) 11(4.725,-5.715) 12(4.725,-4.445) 13(4.725,-3.175) 14(4.725,-1.905) 15(4.725,-0.635) 16(4.725,0.635) 17(4.725,1.905) 18(4.725,3.175) 19(4.725,4.445) 20(4.725,5.715)
Top Overlay:
  lines w0.2: -5.7,6.39 -3.75,6.39 ; -3.4,-6.4 -3.4,6.4 3.4,6.4 3.4,-6.4 -3.4,-6.4
Mechanical 13:
  lines w0.1: -3.75,5.13 -2.48,6.4 ; -3.75,-6.4 -3.75,6.4 3.75,6.4 3.75,-6.4 -3.75,-6.4
Mechanical 15:
  lines w0.05: -5.95,-6.75 -5.95,6.75 5.95,6.75 5.95,-6.75 -5.95,-6.75
3D body "SN74LS373DW.stp": height 1.75, standoff 0, extent -5.165,-6.4 5.165,6.4

## SOP65P640X110-16N [mm]
pads (16):
  rect 1.475x0.45 smd: 1(-2.938,2.275) 2(-2.938,1.625) 3(-2.938,0.975) 4(-2.938,0.325) 5(-2.938,-0.325) 6(-2.938,-0.975) 7(-2.938,-1.625) 8(-2.938,-2.275) 9(2.938,-2.275) 10(2.938,-1.625) 11(2.938,-0.975) 12(2.938,-0.325) 13(2.938,0.325) 14(2.938,0.975) 15(2.938,1.625) 16(2.938,2.275)
Top Overlay:
  lines w0.2: -3.675,2.85 -2.2,2.85 ; -1.85,-2.5 1.85,-2.5 1.85,2.5 -1.85,2.5 -1.85,-2.5
Mechanical 13:
  lines w0.1: -2.2,1.85 -1.55,2.5 ; -2.2,-2.5 2.2,-2.5 2.2,2.5 -2.2,2.5 -2.2,-2.5
Mechanical 15:
  lines w0.05: -3.925,-2.8 3.925,-2.8 3.925,2.8 -3.925,2.8 -3.925,-2.8
3D body "74HC165PW,112.stp": height 1.1, standoff 0, extent -3.2,-2.5 3.2,2.5

## SOP65P640X120-20N [mm]
pads (20):
  rect 1.475x0.45 smd: 1(-2.938,2.925) 2(-2.938,2.275) 3(-2.938,1.625) 4(-2.938,0.975) 5(-2.938,0.325) 6(-2.938,-0.325) 7(-2.938,-0.975) 8(-2.938,-1.625) 9(-2.938,-2.275) 10(-2.938,-2.925) 11(2.938,-2.925) 12(2.938,-2.275) 13(2.938,-1.625) 14(2.938,-0.975) 15(2.938,-0.325) 16(2.938,0.325) 17(2.938,0.975) 18(2.938,1.625) 19(2.938,2.275) 20(2.938,2.925)
Top Overlay:
  lines w0.2: -3.675,3.5 -2.2,3.5 ; -1.85,-3.25 1.85,-3.25 1.85,3.25 -1.85,3.25 -1.85,-3.25
Mechanical 13:
  lines w0.1: -2.2,2.6 -1.55,3.25 ; -2.2,-3.25 2.2,-3.25 2.2,3.25 -2.2,3.25 -2.2,-3.25
Mechanical 15:
  lines w0.05: -3.925,-3.55 3.925,-3.55 3.925,3.55 -3.925,3.55 -3.925,-3.55
3D body "SN74HC245PWR.stp": height 1.13, standoff 0, extent -3.2,-3.25 3.2,3.25

## SOP80P1176X120-44N [mm]
pads (44):
  rect 1.295x0.6 smd: 1(-5.728,8.4) 2(-5.728,7.6) 3(-5.728,6.8) 4(-5.728,6) 5(-5.728,5.2) 6(-5.728,4.4) 7(-5.728,3.6) 8(-5.728,2.8) 9(-5.728,2) 10(-5.728,1.2) 11(-5.728,0.4) 12(-5.728,-0.4) 13(-5.728,-1.2) 14(-5.728,-2) 15(-5.728,-2.8) 16(-5.728,-3.6) 17(-5.728,-4.4) 18(-5.728,-5.2) 19(-5.728,-6) 20(-5.728,-6.8) 21(-5.728,-7.6) 22(-5.728,-8.4) 23(5.728,-8.4) 24(5.728,-7.6) 25(5.728,-6.8) 26(5.728,-6) 27(5.728,-5.2) 28(5.728,-4.4) 29(5.728,-3.6) 30(5.728,-2.8) 31(5.728,-2) 32(5.728,-1.2) 33(5.728,-0.4) 34(5.728,0.4) 35(5.728,1.2) 36(5.728,2) 37(5.728,2.8) 38(5.728,3.6) 39(5.728,4.4) 40(5.728,5.2) 41(5.728,6) 42(5.728,6.8) 43(5.728,7.6) 44(5.728,8.4)
Top Overlay:
  lines w0.2: -6.375,9.05 -5.08,9.05 ; -4.73,-9.208 4.73,-9.208 4.73,9.208 -4.73,9.208 -4.73,-9.208
Mechanical 13:
  lines w0.1: -5.08,8.408 -4.28,9.208 ; -5.08,-9.208 5.08,-9.208 5.08,9.208 -5.08,9.208 -5.08,-9.208
Mechanical 15:
  lines w0.05: -6.625,-9.51 6.625,-9.51 6.625,9.51 -6.625,9.51 -6.625,-9.51
3D body "IS62WV51216BLL-55TLI.stp": height 1.2, standoff 0, extent -5.88,-9.207 5.88,9.207